# EAGLE library part TMP112 (library TMP112_Breakout)
The RFM22 is a low-power, low cost radio that is capable of operating in the 434MHz and 900MHz open bands. It's frequency is software defined and there are some very good libraries written for it.
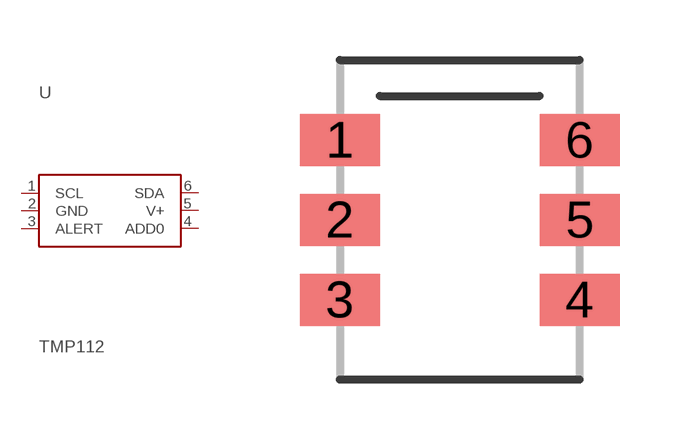
[diagram p0: symbol with the pads of TMP112; footprint TMP112]

Designator prefix -

## TMP112SMD  [TMP112]
1  SCL  in
2  GND  in
3  ALERT  out
4  ADD0  in
5  V+  in
6  SDA

## Footprint TMP112 (pad centres in mm)
Package for Hope RF s RFM22-xxx-S2 SMD wireless transciever, xxx is module s frequency band. *Unproven*''
smd 2 x 1.3: 1 -3,3; 2 -3,1; 3 -3,-1; 4 3,-1; 5 3,1; 6 3,3